# Altium footprint library smart_lock.PcbLib: 25 footprints (part 1 of 2)
Each footprint in its own frame and in the unit in brackets; x right, y up, seen from the top. Pads: shape width x height; smd on the part's side, far side on the other; paste and mask are expansions set on the pad; w line width, h text height; cw(c..) or ccw(c..) is an arc to the next point about the centre after c.
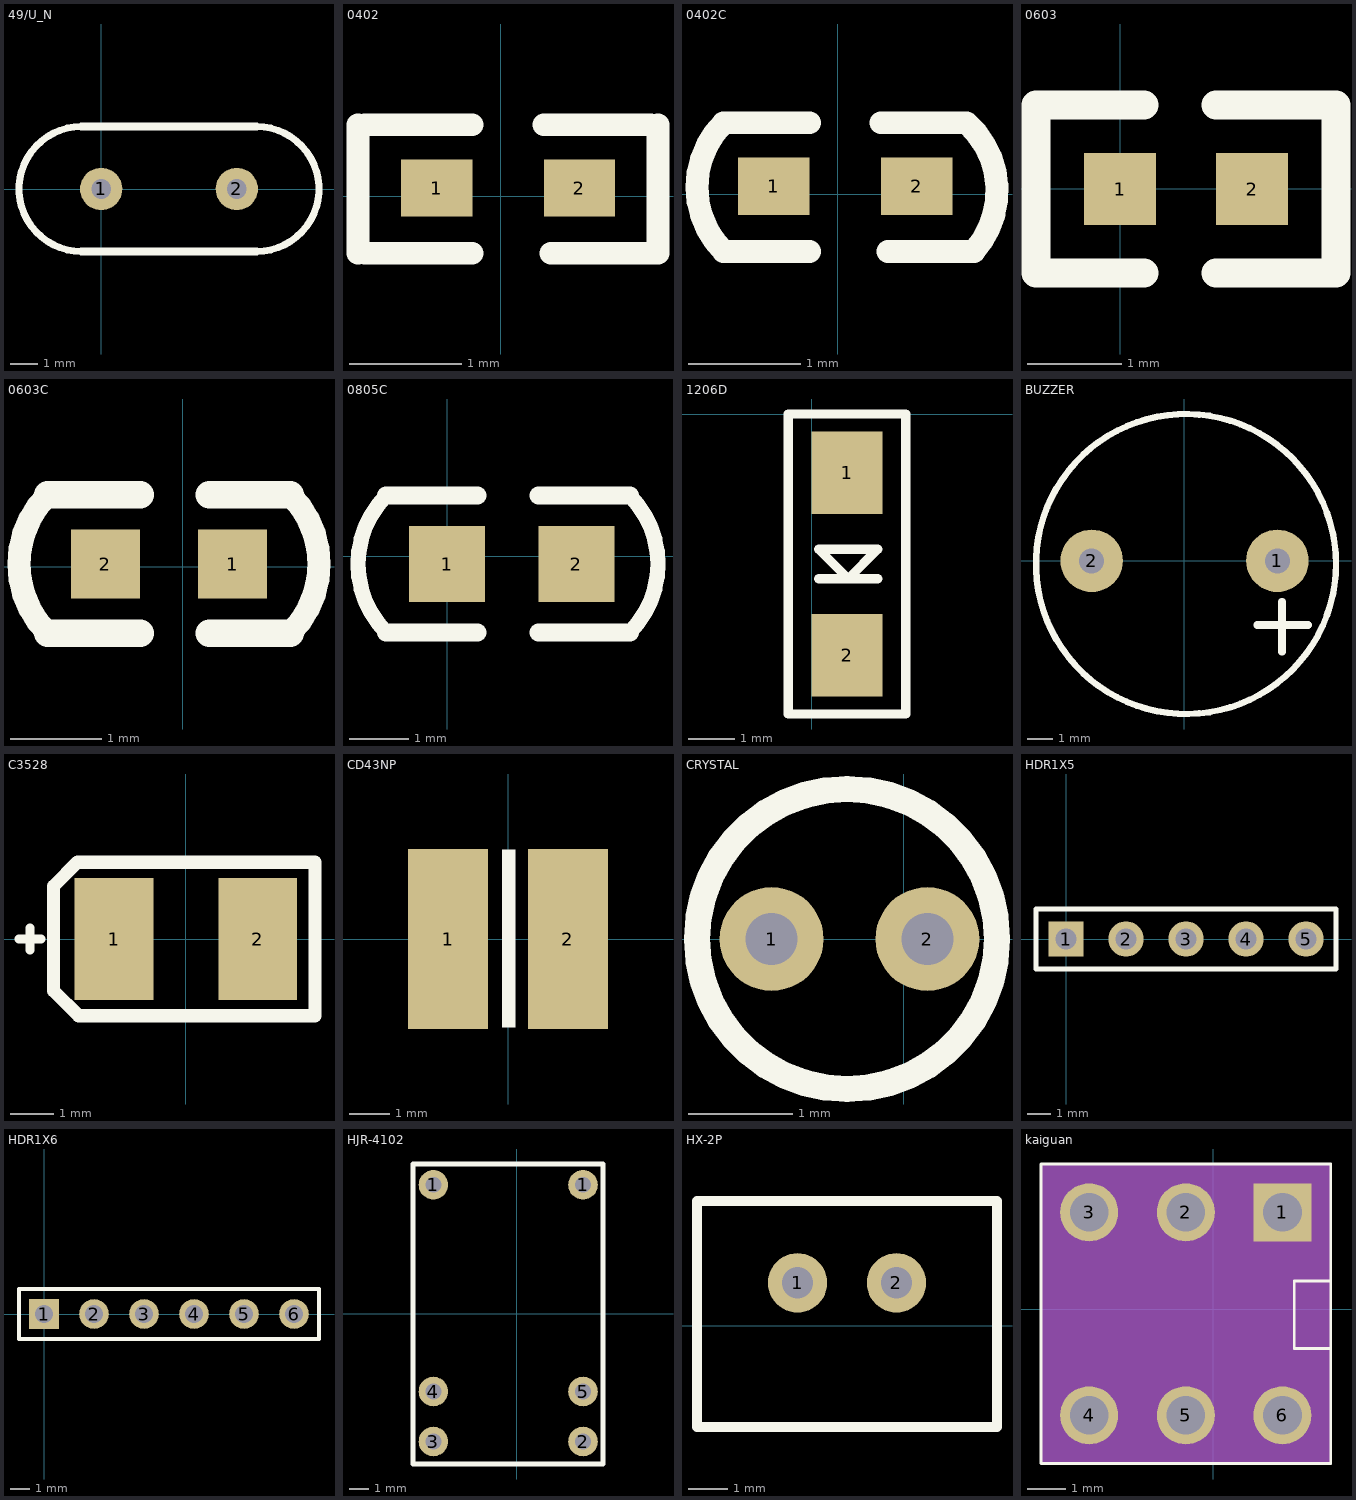
[diagram p0: the footprints below, top view; thin cyan lines are the x and y axes]

## 49/U_N [mil]
pads (2):
  round 60 hole 28: 1(0,0) 2(192,0)
Top Overlay:
  lines w10: -28,-88.5 cw(c-28,0) -28,88.5 ; 220,-88.5 ccw(c220,0) 220,88.5
  lines w11.81: -28,-88.5 220,-88.5 ; -28,88.5 220,88.5
3D body: height 511.81, standoff -118.11, extent -116.54,-88.39 308.66,88.78

## 0402 [mil]
pads (2):
  rect 25x20 smd: 1(-22.48,2.83) 2(27.52,2.83)
Top Overlay:
  lines w8: -50,-20 -50,25 ; -47.52,-20 -10,-20 ; -47.52,25 -10,25 ; 15,25 52.48,25 ; 17.52,-20 55,-20 55,25

## 0402C [mil]
pads (2):
  rect 25x20 smd: 1(-22.48,2.83) 2(27.52,2.83)
Top Overlay:
  lines w8: -10,-20 -40,-20 cw(c-17.5,2.5) -40,25 -10,25 ; 15,25 45,25 cw(c23.76,1.24) 47.52,-20 17.52,-20

## 0603 [mil]
pads (2):
  rect 30x30 smd: 1(0,0) 2(55,0)
Top Overlay:
  lines w12: 10,-35 -35,-35 -35,35 10,35 ; 40,-35 90,-35 90,35 40,35

## 0603C [mil]
pads (2):
  rect 30x30 smd: 1(21.61,1.26) 2(-33.39,1.26)
Top Overlay:
  lines w10: -58.39,-28.74 cw(c-28.39,1.26) -58.39,31.26 ; 46.61,-28.74 ccw(c16.61,1.26) 46.61,31.26
  lines w12: -58.39,-28.74 -18.39,-28.74 ; -58.39,31.26 -18.39,31.26 ; 11.61,-28.74 46.61,-28.74 ; 11.61,31.26 46.61,31.26

## 0805C [mil]
pads (2):
  rect 50x50 smd: 1(0,-5) 2(85,-5)
Top Overlay:
  lines w10: -40,-50 cw(c5,-5) -40,40 ; 120,-50 ccw(c75,-5) 120,40
  lines w12: -40,-50 20,-50 ; -40,40 20,40 ; 60,-50 120,-50 ; 60,40 120,40

## 1206D [mil]
pads (2):
  rect 60x70 smd: 1(30,-50) 2(30,-205)
Top Overlay:
  lines w8: 6,-140 56,-140 ; -20,-255 80,-255 80,0 -20,0 -20,-255 ; 6,-115 56,-115 31,-140 6,-115

## BUZZER [mm]
pads (2):
  round 2.5 hole 1: 1(3.728,0) 2(-3.703,0)
Top Overlay:
  circle w0.254: c0.071,-0.127 r6
  lines w0.305: 2.921,-2.565 4.953,-2.565 ; 3.912,-3.642 3.912,-1.642

## C3528 [mil]
pads (2):
  rect 70.87x110 smd: 1(-64.5,0) 2(64.5,0)
Top Overlay:
  lines w8: -150,0 -130,0 ; -140,-10 -140,10
  lines w11.81: -119,-46.5 -96.5,-69 116,-69 116,69 -97.5,69 -119,47.5 -119,-46.5
3D body: height 74.8, standoff 0, extent -68.9,-55.11 68.9,55.12

## CD43NP [mm]
pads (2):
  rect 2x4.5 smd: 1(-1.512,0) 2(1.488,0)
Top Overlay:
  rectangle: -0.167,-2.208 0.176,2.235
Mechanical 2:
  lines w0.05: 0.623,-2.115 0.623,2.115 ; 0.623,-2.115 1.101,-2.115 ; 0.623,-2.115 1.101,-2.115 ; 0.623,2.115 1.101,2.115 ; 0.623,2.115 1.101,2.115 ; 1.101,-2.115 ccw(c-0.012,0) 2.348,-0.375 ; 1.101,-2.115 ccw(c-0.012,0) 2.348,-0.375 ; 1.101,2.115 cw(c-0.012,0) 2.348,0.375 ; 2.348,-0.375 cw(c2.438,0) 2.348,0.375 ; 2.348,-0.375 cw(c2.438,0) 2.348,0.375 ; -2.372,-0.375 ccw(c-2.462,0) -2.372,0.375 cw(c-0.012,0) -1.125,2.115 -0.647,2.115 -0.647,-2.115 -1.125,-2.115 cw(c-0.012,0) -2.372,-0.375
Mechanical 5:
3D body: height 3.5, standoff 0, extent -2.412,-2.141 2.388,2.159

## CRYSTAL [mm]
pads (2):
  round 1 hole 0.5: 1(-1.27,0) 2(0.23,0)
Top Overlay:
  circle w0.254: c-0.544,0 r1.444

## HDR1X5 [mm]
pads (5):
  rect 1.5x1.5 hole 0.9: 1(0,0)
  round 1.5 hole 0.9: 2(2.54,0) 3(5.08,0) 4(7.62,0) 5(10.16,0)
Top Overlay:
  lines w0.2: -1.27,-1.27 -1.27,1.27 11.43,1.27 11.43,-1.27 -1.27,-1.27

## HDR1X6 [mm]
pads (6):
  rect 1.5x1.5 hole 0.9: 1(0,0)
  round 1.5 hole 0.9: 2(2.54,0) 3(5.08,0) 4(7.62,0) 5(10.16,0) 6(12.7,0)
Top Overlay:
  lines w0.2: -1.27,-1.27 13.97,-1.27 13.97,1.27 -1.27,1.27 -1.27,-1.27

## HJR-4102 [mm]
pads (6):
  round 1.5 hole 0.8: 1(-4.223,6.539) 1(3.377,6.539) 2(3.377,-6.501) 3(-4.223,-6.501) 4(-4.223,-3.961) 5(3.377,-3.961)
Top Overlay:
  lines w0.254: -5.259,-7.644 4.393,-7.644 4.393,7.596 -5.259,7.596 -5.259,-7.644

## HX-2P [mm]
pads (2):
  round 1.524 hole 0.8: 1(-11.12,1.1) 2(-8.58,1.1)
Top Overlay:
  lines w0.254: -13.7,-2.6 -13.7,3.2 -6,3.2 -6,-2.6 -13.7,-2.6

## kaiguan [mil]
pads (6):
  rect 60x60 / inner round 60 / far side rect 60x60 hole 40: 1(71.65,100.34)
  round 60 hole 40: 2(-28.35,100.34) 3(-128.35,100.34) 4(-128.35,-109.66) 5(-28.35,-109.66) 6(71.65,-109.66)
Top Overlay:
  lines w3: 120.82,-40.42 83.88,-40.42 83.88,29.07 121.23,29.07 ; 121.65,-109.66 121.65,-159.66 -178.35,-159.66 -178.35,150.34 121.65,150.34 121.65,-109.81 ; 121.63,-109.81 121.65,-109.81
Mechanical 9:
  text "5" at -55.12,-59.06 h35.43
  text "2" at -48.35,100.33 h35.43
  text "3" at -148.35,100.33 h35.43
  text "6" at 51.65,-109.67 h35.43
  text "4" at -148.35,-109.67 h35.43
  text "1" at 51.65,100.33 h35.43
Mechanical 10:
  region: 122.06,150.08 -178.06,150.08 -178.06,-160.08 122.06,-160.08